# EAGLE library part BGM111_DEV (library BGM111)
BGM111 - Blue Gecko BGM111 Bluetooth Smart® Module Technical Specifications: Bluetooth 4.2 compliant Configurable TX power up to +8 dBm Range up to 200 meters ARM® Cortex-M4 @ up to 38.4 MHz Arrow: BGM111A256V1R <https://www.arrow.com/en/products/bgm111a256v1r/silicon-labs> Digikey: BGM111A256V1-ND <https://www.digikey.com/product-search/en/rf-if-and-rfid/rf-transceiver-modules/3539948?k=bgm111> Mouser: 634-BGM111A256V2 <http://www.mouser.com/search/ProductDetail.aspx?R=0virtualkey0virtualkeyBGM111A256V2>
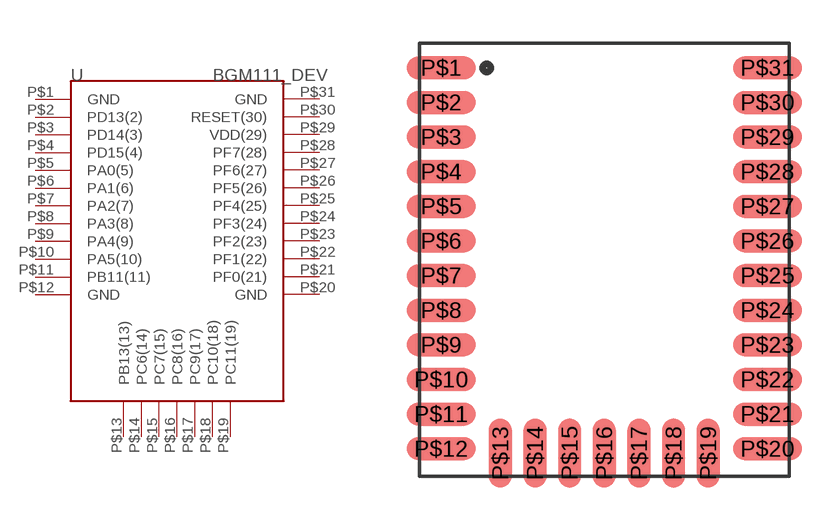
[diagram p0: symbol with the pads of BGM111_PAC; footprint BGM111_PAC]

Designator prefix -

## BGM111_DEV  [BGM111_PAC]
P$1  GND  pwr
P$2  PD13(2)
P$3  PD14(3)
P$4  PD15(4)
P$5  PA0(5)
P$6  PA1(6)
P$7  PA2(7)
P$8  PA3(8)
P$9  PA4(9)
P$10  PA5(10)
P$11  PB11(11)
P$12  GND  pwr
P$13  PB13(13)
P$14  PC6(14)
P$15  PC7(15)
P$16  PC8(16)
P$17  PC9(17)
P$18  PC10(18)
P$19  PC11(19)
P$20  GND  pwr
P$21  PF0(21)
P$22  PF1(22)
P$23  PF2(23)
P$24  PF3(24)
P$25  PF4(25)
P$26  PF5(26)
P$27  PF6(27)
P$28  PF7(28)
P$29  VDD(29)  pwr
P$30  RESET(30)  in
P$31  GND  pwr

## Footprint BGM111_PAC (pad centres in mm)
smd 2.4 x 0.8: P$1 -5.65,14.15; P$2 -5.65,12.95; P$3 -5.65,11.75; P$4 -5.65,10.55; P$5 -5.65,9.35; P$6 -5.65,8.15; P$7 -5.65,6.95; P$8 -5.65,5.75; P$9 -5.65,4.55; P$10 -5.65,3.35; P$11 -5.65,2.15; P$12 -5.65,0.95; P$20 5.65,0.95; P$21 5.65,2.15; P$22 5.65,3.35; P$23 5.65,4.55; P$24 5.65,5.75; P$25 5.65,6.95; P$26 5.65,8.15; P$27 5.65,9.35; P$28 5.65,10.55; P$29 5.65,11.75; P$30 5.65,12.95; P$31 5.65,14.15
smd 0.8 x 2.4: P$13 -3.6,0.8; P$14 -2.4,0.8; P$15 -1.2,0.8; P$16 0,0.8; P$17 1.2,0.8; P$18 2.4,0.8; P$19 3.6,0.8